# Altium integrated library Analog Devices Operational Amplifiers.IntLib: 2102 symbols (part 9 of 70)
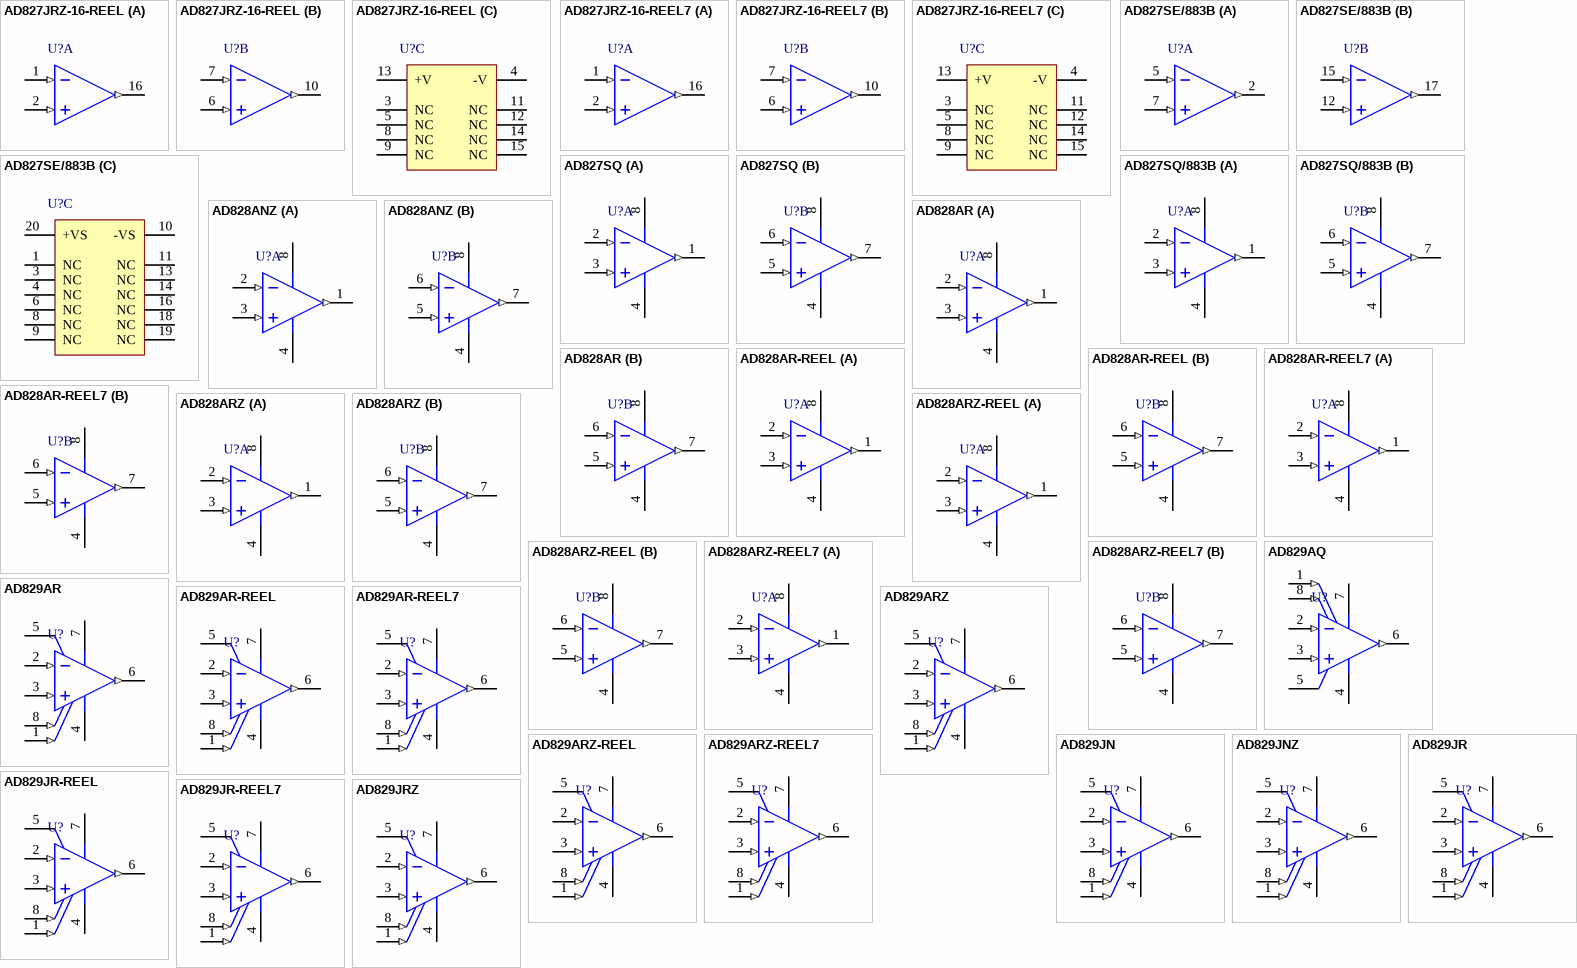
[diagram p122: symbols AD827JRZ-16-REEL to AD829JRZ]

## AD828ARZ
designator U?
Double Channel Low Power Operational Amplifier, 130 MHz BW, 450 V/us SR, Industrial, 8-pin SOIC (R-8), Tube; Generic Part Number: AD828; Manufacturer: Analog Devices; PartNumber: AD828ARZ; Amplifiers Per Package: 2; Input Bias Current: 3.3uA; Input Offset Voltage: 500uV; Iq/Amp: 7.5mA; Small Signal Bandwidth: 130MHz; V Span Max: 36V; V Span Min: 5V; DatasheetVersion: Rev. C; PackageVersion: 060506-A; PackageReference: R-8; PackageDescription: 8-Pin Standard Small Outline Package, Body 3.9 x 4.9 mm, Pitch 1.27 mm; Supplier 1: Digi-Key; Supplier Part Number 1: AD828ARZ-ND; Supplier 2: Farnell; Supplier Part Number 2: 1651292; Supplier 3: Newark; Supplier Part Number 3: 19M8893; Slew Rate: 450V/us; Mounting Technology: Surface Mount; Code_JEDEC: MS-012-AA; ComponentLink1Description: Manufacturer URL; ComponentLink1URL: http://www.analog.com/en/index.html; ComponentLink2Description: Datasheet; ComponentLink2URL: http://www.analog.com/static/imported-files/data_sheets/AD828.pdf; ComponentLink3Description: Package Specification; ComponentLink3URL: http://www.analog.com/static/imported-files/packages/PKG_PDF/SOIC_Narrow%20(R)/R_8.pdf
footprint ADI-R-8_N (SOIC, 8-Leads, Body 4.9x3.9mm, Pitch 1.27mm, IPC Medium Density)
footprint ADI-R-8_L (SOIC, 8-Leads, Body 4.9x3.9mm, Pitch 1.27mm, IPC High Density)
footprint ADI-R-8_M (SOIC, 8-Leads, Body 4.9x3.9mm, Pitch 1.27mm, IPC Low Density)
pins on every part: 4 -V (power), 8 +V (power)
part A pins: 1 OUT 1 (out), 2 -IN 1 (in), 3 +IN 1 (in)
part B pins: 5 +IN 2 (in), 6 -IN 2 (in), 7 OUT 2 (out)

## AD828ARZ-REEL
designator U?
Double Channel Low Power Operational Amplifier, 130 MHz BW, 450 V/us SR, Industrial, 8-pin SOIC (R-8), Reel; Generic Part Number: AD828; Manufacturer: Analog Devices; PartNumber: AD828ARZ-REEL; Amplifiers Per Package: 2; Input Bias Current: 3.3uA; Input Offset Voltage: 500uV; Iq/Amp: 7.5mA; Small Signal Bandwidth: 130MHz; V Span Max: 36V; V Span Min: 5V; DatasheetVersion: Rev. C; PackageVersion: 060506-A; PackageReference: R-8; PackageDescription: 8-Pin Standard Small Outline Package, Body 3.9 x 4.9 mm, Pitch 1.27 mm; Supplier 1: Digi-Key; Supplier Part Number 1: AD828ARZ-REEL-ND; Slew Rate: 450V/us; Mounting Technology: Surface Mount; Code_JEDEC: MS-012-AA; ComponentLink1Description: Manufacturer URL; ComponentLink1URL: http://www.analog.com/en/index.html; ComponentLink2Description: Datasheet; ComponentLink2URL: http://www.analog.com/static/imported-files/data_sheets/AD828.pdf; ComponentLink3Description: Package Specification; ComponentLink3URL: http://www.analog.com/static/imported-files/packages/PKG_PDF/SOIC_Narrow%20(R)/R_8.pdf
footprint ADI-R-8_N (SOIC, 8-Leads, Body 4.9x3.9mm, Pitch 1.27mm, IPC Medium Density)
footprint ADI-R-8_L (SOIC, 8-Leads, Body 4.9x3.9mm, Pitch 1.27mm, IPC High Density)
footprint ADI-R-8_M (SOIC, 8-Leads, Body 4.9x3.9mm, Pitch 1.27mm, IPC Low Density)
pins on every part: 4 -V (power), 8 +V (power)
part A pins: 1 OUT 1 (out), 2 -IN 1 (in), 3 +IN 1 (in)
part B pins: 5 +IN 2 (in), 6 -IN 2 (in), 7 OUT 2 (out)

## AD828ARZ-REEL7
designator U?
Double Channel Low Power Operational Amplifier, 130 MHz BW, 450 V/us SR, Industrial, 8-pin SOIC (R-8), Reel; Generic Part Number: AD828; Manufacturer: Analog Devices; PartNumber: AD828ARZ-REEL7; Amplifiers Per Package: 2; Input Bias Current: 3.3uA; Input Offset Voltage: 500uV; Iq/Amp: 7.5mA; Small Signal Bandwidth: 130MHz; V Span Max: 36V; V Span Min: 5V; DatasheetVersion: Rev. C; PackageVersion: 060506-A; PackageReference: R-8; PackageDescription: 8-Pin Standard Small Outline Package, Body 3.9 x 4.9 mm, Pitch 1.27 mm; Supplier 1: Digi-Key; Supplier Part Number 1: AD828ARZ-REEL7-ND; Slew Rate: 450V/us; Mounting Technology: Surface Mount; Code_JEDEC: MS-012-AA; ComponentLink1Description: Manufacturer URL; ComponentLink1URL: http://www.analog.com/en/index.html; ComponentLink2Description: Datasheet; ComponentLink2URL: http://www.analog.com/static/imported-files/data_sheets/AD828.pdf; ComponentLink3Description: Package Specification; ComponentLink3URL: http://www.analog.com/static/imported-files/packages/PKG_PDF/SOIC_Narrow%20(R)/R_8.pdf
footprint ADI-R-8_N (SOIC, 8-Leads, Body 4.9x3.9mm, Pitch 1.27mm, IPC Medium Density)
footprint ADI-R-8_L (SOIC, 8-Leads, Body 4.9x3.9mm, Pitch 1.27mm, IPC High Density)
footprint ADI-R-8_M (SOIC, 8-Leads, Body 4.9x3.9mm, Pitch 1.27mm, IPC Low Density)
pins on every part: 4 -V (power), 8 +V (power)
part A pins: 1 OUT 1 (out), 2 -IN 1 (in), 3 +IN 1 (in)
part B pins: 5 +IN 2 (in), 6 -IN 2 (in), 7 OUT 2 (out)

## AD829AQ
designator U?
Single Channel Low Noise Operational Amplifier, 120 MHz BW, 230 V/us SR, Industrial, 8-pin DIP (Q-8), Tube; Generic Part Number: AD829; Manufacturer: Analog Devices; PartNumber: AD829AQ; Amplifiers Per Package: 1; Input Bias Current: 3.3uA; Input Offset Voltage: 100uV; Iq/Amp: 6.5mA; Small Signal Bandwidth: 120MHz; V Span Max: 36V; V Span Min: 9V; DatasheetVersion: Rev. I; PackageReference: Q-8; PackageDescription: 8-Pin Ceramic Dual In-Line Package, Row spacing 7.62 mm, Pitch 2.54 mm; Supplier 1: Digi-Key; Supplier Part Number 1: AD829AQ-ND; Supplier 2: Newark; Supplier Part Number 2: 05F7694; Packing: Tube; Slew Rate: 230V/us; Mounting Technology: Through Hole; ComponentLink1Description: Manufacturer URL; ComponentLink1URL: http://www.analog.com/en/index.html; ComponentLink2Description: Datasheet; ComponentLink2URL: http://www.analog.com/static/imported-files/data_sheets/AD829.pdf; ComponentLink3Description: Package Specification; ComponentLink3URL: http://www.analog.com/static/imported-files/packages/3925655241313314758Q_8.pdf
footprint ADI-Q-8 (DIP, 8-Leads, Body 10.29x6.73mm, Pitch 2.54mm)
pins: 1 OFFSET NULL (in), 2 -IN (in), 3 +IN (in), 4 -VS (power), 5 CCOMP, 6 OUT (out), 7 +VS (power), 8 OFFSET NULL (in)

## AD829AR
designator U?
Single Channel Low Noise Operational Amplifier, 120 MHz BW, 230 V/us SR, Industrial, 8-pin SOIC (R-8), Tube; Generic Part Number: AD829; Manufacturer: Analog Devices; PartNumber: AD829AR; Amplifiers Per Package: 1; Input Bias Current: 3.3uA; Input Offset Voltage: 200uV; Iq/Amp: 6.5mA; Small Signal Bandwidth: 120MHz; V Span Max: 36V; V Span Min: 9V; DatasheetVersion: Rev. I; PackageVersion: 060506-A; PackageReference: R-8; PackageDescription: 8-Pin Standard Small Outline Package, Body 3.9 x 4.9 mm, Pitch 1.27 mm; Supplier 1: Digi-Key; Supplier Part Number 1: AD829AR-ND; Packing: Tube; Slew Rate: 230V/us; Mounting Technology: Surface Mount; Code_JEDEC: MS-012-AA; ComponentLink1Description: Manufacturer URL; ComponentLink1URL: http://www.analog.com/en/index.html; ComponentLink2Description: Datasheet; ComponentLink2URL: http://www.analog.com/static/imported-files/data_sheets/AD829.pdf; ComponentLink3Description: Package Specification; ComponentLink3URL: http://www.analog.com/static/imported-files/packages/PKG_PDF/SOIC_Narrow%20(R)/R_8.pdf
footprint ADI-R-8_N (SOIC, 8-Leads, Body 4.9x3.9mm, Pitch 1.27mm, IPC Medium Density)
footprint ADI-R-8_L (SOIC, 8-Leads, Body 4.9x3.9mm, Pitch 1.27mm, IPC High Density)
footprint ADI-R-8_M (SOIC, 8-Leads, Body 4.9x3.9mm, Pitch 1.27mm, IPC Low Density)
pins: 1 OFFSET NULL (in), 2 -IN (in), 3 +IN (in), 4 -VS (power), 5 CCOMP, 6 OUT (out), 7 +VS (power), 8 OFFSET NULL (in)

## AD829AR-REEL
designator U?
Single Channel Low Noise Operational Amplifier, 120 MHz BW, 230 V/us SR, Industrial, 8-pin SOIC (R-8), Reel; Generic Part Number: AD829; Manufacturer: Analog Devices; PartNumber: AD829AR-REEL; Amplifiers Per Package: 1; Input Bias Current: 3.3uA; Input Offset Voltage: 200uV; Iq/Amp: 6.5mA; Small Signal Bandwidth: 120MHz; V Span Max: 36V; V Span Min: 9V; DatasheetVersion: Rev. I; PackageVersion: 060506-A; PackageReference: R-8; PackageDescription: 8-Pin Standard Small Outline Package, Body 3.9 x 4.9 mm, Pitch 1.27 mm; Supplier 1: Digi-Key; Supplier Part Number 1: AD829AR-REEL-ND; Supplier 2: Newark; Supplier Part Number 2: 09B6530; Packing: Reel; Slew Rate: 230V/us; Mounting Technology: Surface Mount; Code_JEDEC: MS-012-AA; ComponentLink1Description: Manufacturer URL; ComponentLink1URL: http://www.analog.com/en/index.html; ComponentLink2Description: Datasheet; ComponentLink2URL: http://www.analog.com/static/imported-files/data_sheets/AD829.pdf; ComponentLink3Description: Package Specification; ComponentLink3URL: http://www.analog.com/static/imported-files/packages/PKG_PDF/SOIC_Narrow%20(R)/R_8.pdf
footprint ADI-R-8_N (SOIC, 8-Leads, Body 4.9x3.9mm, Pitch 1.27mm, IPC Medium Density)
footprint ADI-R-8_L (SOIC, 8-Leads, Body 4.9x3.9mm, Pitch 1.27mm, IPC High Density)
footprint ADI-R-8_M (SOIC, 8-Leads, Body 4.9x3.9mm, Pitch 1.27mm, IPC Low Density)
pins: 1 OFFSET NULL (in), 2 -IN (in), 3 +IN (in), 4 -VS (power), 5 CCOMP, 6 OUT (out), 7 +VS (power), 8 OFFSET NULL (in)

## AD829AR-REEL7
designator U?
Single Channel Low Noise Operational Amplifier, 120 MHz BW, 230 V/us SR, Industrial, 8-pin SOIC (R-8), Reel; Generic Part Number: AD829; Manufacturer: Analog Devices; PartNumber: AD829AR-REEL7; Amplifiers Per Package: 1; Input Bias Current: 3.3uA; Input Offset Voltage: 200uV; Iq/Amp: 6.5mA; Small Signal Bandwidth: 120MHz; V Span Max: 36V; V Span Min: 9V; DatasheetVersion: Rev. I; PackageVersion: 060506-A; PackageReference: R-8; PackageDescription: 8-Pin Standard Small Outline Package, Body 3.9 x 4.9 mm, Pitch 1.27 mm; Supplier 1: Digi-Key; Supplier Part Number 1: AD829AR-REEL7-ND; Supplier 2: Newark; Supplier Part Number 2: 09B6531; Packing: Reel; Slew Rate: 230V/us; Mounting Technology: Surface Mount; Code_JEDEC: MS-012-AA; ComponentLink1Description: Manufacturer URL; ComponentLink1URL: http://www.analog.com/en/index.html; ComponentLink2Description: Datasheet; ComponentLink2URL: http://www.analog.com/static/imported-files/data_sheets/AD829.pdf; ComponentLink3Description: Package Specification; ComponentLink3URL: http://www.analog.com/static/imported-files/packages/PKG_PDF/SOIC_Narrow%20(R)/R_8.pdf
footprint ADI-R-8_N (SOIC, 8-Leads, Body 4.9x3.9mm, Pitch 1.27mm, IPC Medium Density)
footprint ADI-R-8_L (SOIC, 8-Leads, Body 4.9x3.9mm, Pitch 1.27mm, IPC High Density)
footprint ADI-R-8_M (SOIC, 8-Leads, Body 4.9x3.9mm, Pitch 1.27mm, IPC Low Density)
pins: 1 OFFSET NULL (in), 2 -IN (in), 3 +IN (in), 4 -VS (power), 5 CCOMP, 6 OUT (out), 7 +VS (power), 8 OFFSET NULL (in)

## AD829ARZ
designator U?
Single Channel Low Noise Operational Amplifier, 120 MHz BW, 230 V/us SR, Industrial, 8-pin SOIC (R-8), Tube; Generic Part Number: AD829; Manufacturer: Analog Devices; PartNumber: AD829ARZ; Amplifiers Per Package: 1; Input Bias Current: 3.3uA; Input Offset Voltage: 200uV; Iq/Amp: 6.5mA; Small Signal Bandwidth: 120MHz; V Span Max: 36V; V Span Min: 9V; DatasheetVersion: Rev. I; PackageVersion: 060506-A; PackageReference: R-8; PackageDescription: 8-Pin Standard Small Outline Package, Body 3.9 x 4.9 mm, Pitch 1.27 mm; Supplier 1: Digi-Key; Supplier Part Number 1: AD829ARZ-ND; Supplier 2: Farnell; Supplier Part Number 2: 1651322; Supplier 3: Newark; Supplier Part Number 3: 82H3000; Packing: Tube; Slew Rate: 230V/us; Mounting Technology: Surface Mount; Code_JEDEC: MS-012-AA; ComponentLink1Description: Manufacturer URL; ComponentLink1URL: http://www.analog.com/en/index.html; ComponentLink2Description: Datasheet; ComponentLink2URL: http://www.analog.com/static/imported-files/data_sheets/AD829.pdf; ComponentLink3Description: Package Specification; ComponentLink3URL: http://www.analog.com/static/imported-files/packages/PKG_PDF/SOIC_Narrow%20(R)/R_8.pdf
footprint ADI-R-8_N (SOIC, 8-Leads, Body 4.9x3.9mm, Pitch 1.27mm, IPC Medium Density)
footprint ADI-R-8_L (SOIC, 8-Leads, Body 4.9x3.9mm, Pitch 1.27mm, IPC High Density)
footprint ADI-R-8_M (SOIC, 8-Leads, Body 4.9x3.9mm, Pitch 1.27mm, IPC Low Density)
pins: 1 OFFSET NULL (in), 2 -IN (in), 3 +IN (in), 4 -VS (power), 5 CCOMP, 6 OUT (out), 7 +VS (power), 8 OFFSET NULL (in)

## AD829ARZ-REEL
designator U?
Single Channel Low Noise Operational Amplifier, 120 MHz BW, 230 V/us SR, Industrial, 8-pin SOIC (R-8), Reel; Generic Part Number: AD829; Manufacturer: Analog Devices; PartNumber: AD829ARZ-REEL; Amplifiers Per Package: 1; Input Bias Current: 3.3uA; Input Offset Voltage: 200uV; Iq/Amp: 6.5mA; Small Signal Bandwidth: 120MHz; V Span Max: 36V; V Span Min: 9V; DatasheetVersion: Rev. I; PackageVersion: 060506-A; PackageReference: R-8; PackageDescription: 8-Pin Standard Small Outline Package, Body 3.9 x 4.9 mm, Pitch 1.27 mm; Supplier 1: Digi-Key; Supplier Part Number 1: AD829ARZ-REEL-ND; Supplier 2: Newark; Supplier Part Number 2: 82H3001; Packing: Reel; Slew Rate: 230V/us; Mounting Technology: Surface Mount; Code_JEDEC: MS-012-AA; ComponentLink1Description: Manufacturer URL; ComponentLink1URL: http://www.analog.com/en/index.html; ComponentLink2Description: Datasheet; ComponentLink2URL: http://www.analog.com/static/imported-files/data_sheets/AD829.pdf; ComponentLink3Description: Package Specification; ComponentLink3URL: http://www.analog.com/static/imported-files/packages/PKG_PDF/SOIC_Narrow%20(R)/R_8.pdf
footprint ADI-R-8_N (SOIC, 8-Leads, Body 4.9x3.9mm, Pitch 1.27mm, IPC Medium Density)
footprint ADI-R-8_L (SOIC, 8-Leads, Body 4.9x3.9mm, Pitch 1.27mm, IPC High Density)
footprint ADI-R-8_M (SOIC, 8-Leads, Body 4.9x3.9mm, Pitch 1.27mm, IPC Low Density)
pins: 1 OFFSET NULL (in), 2 -IN (in), 3 +IN (in), 4 -VS (power), 5 CCOMP, 6 OUT (out), 7 +VS (power), 8 OFFSET NULL (in)

## AD829ARZ-REEL7
designator U?
Single Channel Low Noise Operational Amplifier, 120 MHz BW, 230 V/us SR, Industrial, 8-pin SOIC (R-8), Reel; Generic Part Number: AD829; Manufacturer: Analog Devices; PartNumber: AD829ARZ-REEL7; Amplifiers Per Package: 1; Input Bias Current: 3.3uA; Input Offset Voltage: 200uV; Iq/Amp: 6.5mA; Small Signal Bandwidth: 120MHz; V Span Max: 36V; V Span Min: 9V; DatasheetVersion: Rev. I; PackageVersion: 060506-A; PackageReference: R-8; PackageDescription: 8-Pin Standard Small Outline Package, Body 3.9 x 4.9 mm, Pitch 1.27 mm; Supplier 1: Digi-Key; Supplier Part Number 1: AD829ARZ-REEL7TR-ND; Supplier 2: Digi-Key; Supplier Part Number 2: AD829ARZ-REEL7CT-ND; Supplier 3: Digi-Key; Supplier Part Number 3: AD829ARZ-REEL7DKR-ND; Supplier 4: Newark; Supplier Part Number 4: 88H0207; Packing: Reel; Slew Rate: 230V/us; Mounting Technology: Surface Mount; Code_JEDEC: MS-012-AA; ComponentLink1Description: Manufacturer URL; ComponentLink1URL: http://www.analog.com/en/index.html; ComponentLink2Description: Datasheet; ComponentLink2URL: http://www.analog.com/static/imported-files/data_sheets/AD829.pdf; ComponentLink3Description: Package Specification; ComponentLink3URL: http://www.analog.com/static/imported-files/packages/PKG_PDF/SOIC_Narrow%20(R)/R_8.pdf
footprint ADI-R-8_N (SOIC, 8-Leads, Body 4.9x3.9mm, Pitch 1.27mm, IPC Medium Density)
footprint ADI-R-8_L (SOIC, 8-Leads, Body 4.9x3.9mm, Pitch 1.27mm, IPC High Density)
footprint ADI-R-8_M (SOIC, 8-Leads, Body 4.9x3.9mm, Pitch 1.27mm, IPC Low Density)
pins: 1 OFFSET NULL (in), 2 -IN (in), 3 +IN (in), 4 -VS (power), 5 CCOMP, 6 OUT (out), 7 +VS (power), 8 OFFSET NULL (in)

## AD829JN
designator U?
Single Channel Low Noise Operational Amplifier, 120 MHz BW, 230 V/us SR, Commercial, 8-pin DIP (N-8), Tube; Generic Part Number: AD829; Manufacturer: Analog Devices; PartNumber: AD829JN; Amplifiers Per Package: 1; Input Bias Current: 3.3uA; Input Offset Voltage: 200uV; Iq/Amp: 6.5mA; Small Signal Bandwidth: 120MHz; V Span Max: 36V; V Span Min: 9V; DatasheetVersion: Rev. I; PackageVersion: 070606-A; PackageReference: N-8; PackageDescription: 8-Pin Plastic Dual In-Line Package, Row spacing 7.62 mm, Pitch 2.54 mm; Supplier 1: Digi-Key; Supplier Part Number 1: AD829JN-ND; Packing: Tube; Slew Rate: 230V/us; Mounting Technology: Through Hole; Code_JEDEC: MS-001; ComponentLink1Description: Manufacturer URL; ComponentLink1URL: http://www.analog.com/en/index.html; ComponentLink2Description: Datasheet; ComponentLink2URL: http://www.analog.com/static/imported-files/data_sheets/AD829.pdf; ComponentLink3Description: Package Specification; ComponentLink3URL: http:/www.analog.com/static/imported-files/packages/PKG_PDF/PDIP(N)/N_8.pdf
footprint ADI-N-8 (DIP, 8-Leads, Body 9.59x6.6mm, Pitch 2.54mm)
pins: 1 OFFSET NULL (in), 2 -IN (in), 3 +IN (in), 4 -VS (power), 5 CCOMP, 6 OUT (out), 7 +VS (power), 8 OFFSET NULL (in)

## AD829JNZ
designator U?
Single Channel Low Noise Operational Amplifier, 120 MHz BW, 230 V/us SR, Commercial, 8-pin DIP (N-8), Tube; Generic Part Number: AD829; Manufacturer: Analog Devices; PartNumber: AD829JNZ; Amplifiers Per Package: 1; Input Bias Current: 3.3uA; Input Offset Voltage: 200uV; Iq/Amp: 6.5mA; Small Signal Bandwidth: 120MHz; V Span Max: 36V; V Span Min: 9V; DatasheetVersion: Rev. I; PackageVersion: 070606-A; PackageReference: N-8; PackageDescription: 8-Pin Plastic Dual In-Line Package, Row spacing 7.62 mm, Pitch 2.54 mm; Supplier 1: Digi-Key; Supplier Part Number 1: AD829JNZ-ND; Supplier 2: Farnell; Supplier Part Number 2: 1438584; Supplier 3: Newark; Supplier Part Number 3: 59K6536; Packing: Tube; Slew Rate: 230V/us; Mounting Technology: Through Hole; Code_JEDEC: MS-001; ComponentLink1Description: Manufacturer URL; ComponentLink1URL: http://www.analog.com/en/index.html; ComponentLink2Description: Datasheet; ComponentLink2URL: http://www.analog.com/static/imported-files/data_sheets/AD829.pdf; ComponentLink3Description: Package Specification; ComponentLink3URL: http:/www.analog.com/static/imported-files/packages/PKG_PDF/PDIP(N)/N_8.pdf
footprint ADI-N-8 (DIP, 8-Leads, Body 9.59x6.6mm, Pitch 2.54mm)
pins: 1 OFFSET NULL (in), 2 -IN (in), 3 +IN (in), 4 -VS (power), 5 CCOMP, 6 OUT (out), 7 +VS (power), 8 OFFSET NULL (in)

## AD829JR
designator U?
Single Channel Low Noise Operational Amplifier, 120 MHz BW, 230 V/us SR, Commercial, 8-pin SOIC (R-8), Tube; Generic Part Number: AD829; Manufacturer: Analog Devices; PartNumber: AD829JR; Amplifiers Per Package: 1; Input Bias Current: 3.3uA; Input Offset Voltage: 200uV; Iq/Amp: 6.5mA; Small Signal Bandwidth: 120MHz; V Span Max: 36V; V Span Min: 9V; DatasheetVersion: Rev. I; PackageVersion: 060506-A; PackageReference: R-8; PackageDescription: 8-Pin Standard Small Outline Package, Body 3.9 x 4.9 mm, Pitch 1.27 mm; Supplier 1: Digi-Key; Supplier Part Number 1: AD829JR-ND; Packing: Tube; Slew Rate: 230V/us; Mounting Technology: Surface Mount; Code_JEDEC: MS-012-AA; ComponentLink1Description: Manufacturer URL; ComponentLink1URL: http://www.analog.com/en/index.html; ComponentLink2Description: Datasheet; ComponentLink2URL: http://www.analog.com/static/imported-files/data_sheets/AD829.pdf; ComponentLink3Description: Package Specification; ComponentLink3URL: http://www.analog.com/static/imported-files/packages/PKG_PDF/SOIC_Narrow%20(R)/R_8.pdf
footprint ADI-R-8_N (SOIC, 8-Leads, Body 4.9x3.9mm, Pitch 1.27mm, IPC Medium Density)
footprint ADI-R-8_L (SOIC, 8-Leads, Body 4.9x3.9mm, Pitch 1.27mm, IPC High Density)
footprint ADI-R-8_M (SOIC, 8-Leads, Body 4.9x3.9mm, Pitch 1.27mm, IPC Low Density)
pins: 1 OFFSET NULL (in), 2 -IN (in), 3 +IN (in), 4 -VS (power), 5 CCOMP, 6 OUT (out), 7 +VS (power), 8 OFFSET NULL (in)

## AD829JR-REEL
designator U?
Single Channel Low Noise Operational Amplifier, 120 MHz BW, 230 V/us SR, Commercial, 8-pin SOIC (R-8), Reel; Generic Part Number: AD829; Manufacturer: Analog Devices; PartNumber: AD829JR-REEL; Amplifiers Per Package: 1; Input Bias Current: 3.3uA; Input Offset Voltage: 200uV; Iq/Amp: 6.5mA; Small Signal Bandwidth: 120MHz; V Span Max: 36V; V Span Min: 9V; DatasheetVersion: Rev. I; PackageVersion: 060506-A; PackageReference: R-8; PackageDescription: 8-Pin Standard Small Outline Package, Body 3.9 x 4.9 mm, Pitch 1.27 mm; Supplier 1: Digi-Key; Supplier Part Number 1: AD829JR-REEL-ND; Supplier 2: Newark; Supplier Part Number 2: 09B6532; Packing: Reel; Slew Rate: 230V/us; Mounting Technology: Surface Mount; Code_JEDEC: MS-012-AA; ComponentLink1Description: Manufacturer URL; ComponentLink1URL: http://www.analog.com/en/index.html; ComponentLink2Description: Datasheet; ComponentLink2URL: http://www.analog.com/static/imported-files/data_sheets/AD829.pdf; ComponentLink3Description: Package Specification; ComponentLink3URL: http://www.analog.com/static/imported-files/packages/PKG_PDF/SOIC_Narrow%20(R)/R_8.pdf
footprint ADI-R-8_N (SOIC, 8-Leads, Body 4.9x3.9mm, Pitch 1.27mm, IPC Medium Density)
footprint ADI-R-8_L (SOIC, 8-Leads, Body 4.9x3.9mm, Pitch 1.27mm, IPC High Density)
footprint ADI-R-8_M (SOIC, 8-Leads, Body 4.9x3.9mm, Pitch 1.27mm, IPC Low Density)
pins: 1 OFFSET NULL (in), 2 -IN (in), 3 +IN (in), 4 -VS (power), 5 CCOMP, 6 OUT (out), 7 +VS (power), 8 OFFSET NULL (in)

## AD829JR-REEL7
designator U?
Single Channel Low Noise Operational Amplifier, 120 MHz BW, 230 V/us SR, Commercial, 8-pin SOIC (R-8), Reel; Generic Part Number: AD829; Manufacturer: Analog Devices; PartNumber: AD829JR-REEL7; Amplifiers Per Package: 1; Input Bias Current: 3.3uA; Input Offset Voltage: 200uV; Iq/Amp: 6.5mA; Small Signal Bandwidth: 120MHz; V Span Max: 36V; V Span Min: 9V; DatasheetVersion: Rev. I; PackageVersion: 060506-A; PackageReference: R-8; PackageDescription: 8-Pin Standard Small Outline Package, Body 3.9 x 4.9 mm, Pitch 1.27 mm; Supplier 1: Digi-Key; Supplier Part Number 1: AD829JR-REEL7TR-ND; Supplier 2: Newark; Supplier Part Number 2: 09B6533; Packing: Reel; Slew Rate: 230V/us; Mounting Technology: Surface Mount; Code_JEDEC: MS-012-AA; ComponentLink1Description: Manufacturer URL; ComponentLink1URL: http://www.analog.com/en/index.html; ComponentLink2Description: Datasheet; ComponentLink2URL: http://www.analog.com/static/imported-files/data_sheets/AD829.pdf; ComponentLink3Description: Package Specification; ComponentLink3URL: http://www.analog.com/static/imported-files/packages/PKG_PDF/SOIC_Narrow%20(R)/R_8.pdf
footprint ADI-R-8_N (SOIC, 8-Leads, Body 4.9x3.9mm, Pitch 1.27mm, IPC Medium Density)
footprint ADI-R-8_L (SOIC, 8-Leads, Body 4.9x3.9mm, Pitch 1.27mm, IPC High Density)
footprint ADI-R-8_M (SOIC, 8-Leads, Body 4.9x3.9mm, Pitch 1.27mm, IPC Low Density)
pins: 1 OFFSET NULL (in), 2 -IN (in), 3 +IN (in), 4 -VS (power), 5 CCOMP, 6 OUT (out), 7 +VS (power), 8 OFFSET NULL (in)

## AD829JRZ
designator U?
Single Channel Low Noise Operational Amplifier, 120 MHz BW, 230 V/us SR, Commercial, 8-pin SOIC (R-8), Tube; Generic Part Number: AD829; Manufacturer: Analog Devices; PartNumber: AD829JRZ; Amplifiers Per Package: 1; Input Bias Current: 3.3uA; Input Offset Voltage: 200uV; Iq/Amp: 6.5mA; Small Signal Bandwidth: 120MHz; V Span Max: 36V; V Span Min: 9V; DatasheetVersion: Rev. I; PackageVersion: 060506-A; PackageReference: R-8; PackageDescription: 8-Pin Standard Small Outline Package, Body 3.9 x 4.9 mm, Pitch 1.27 mm; Supplier 1: Digi-Key; Supplier Part Number 1: AD829JRZ-ND; Supplier 2: Farnell; Supplier Part Number 2: 1651321; Supplier 3: Newark; Supplier Part Number 3: 19M8894; Packing: Tube; Slew Rate: 230V/us; Mounting Technology: Surface Mount; Code_JEDEC: MS-012-AA; ComponentLink1Description: Manufacturer URL; ComponentLink1URL: http://www.analog.com/en/index.html; ComponentLink2Description: Datasheet; ComponentLink2URL: http://www.analog.com/static/imported-files/data_sheets/AD829.pdf; ComponentLink3Description: Package Specification; ComponentLink3URL: http://www.analog.com/static/imported-files/packages/PKG_PDF/SOIC_Narrow%20(R)/R_8.pdf
footprint ADI-R-8_N (SOIC, 8-Leads, Body 4.9x3.9mm, Pitch 1.27mm, IPC Medium Density)
footprint ADI-R-8_L (SOIC, 8-Leads, Body 4.9x3.9mm, Pitch 1.27mm, IPC High Density)
footprint ADI-R-8_M (SOIC, 8-Leads, Body 4.9x3.9mm, Pitch 1.27mm, IPC Low Density)
pins: 1 OFFSET NULL (in), 2 -IN (in), 3 +IN (in), 4 -VS (power), 5 CCOMP, 6 OUT (out), 7 +VS (power), 8 OFFSET NULL (in)

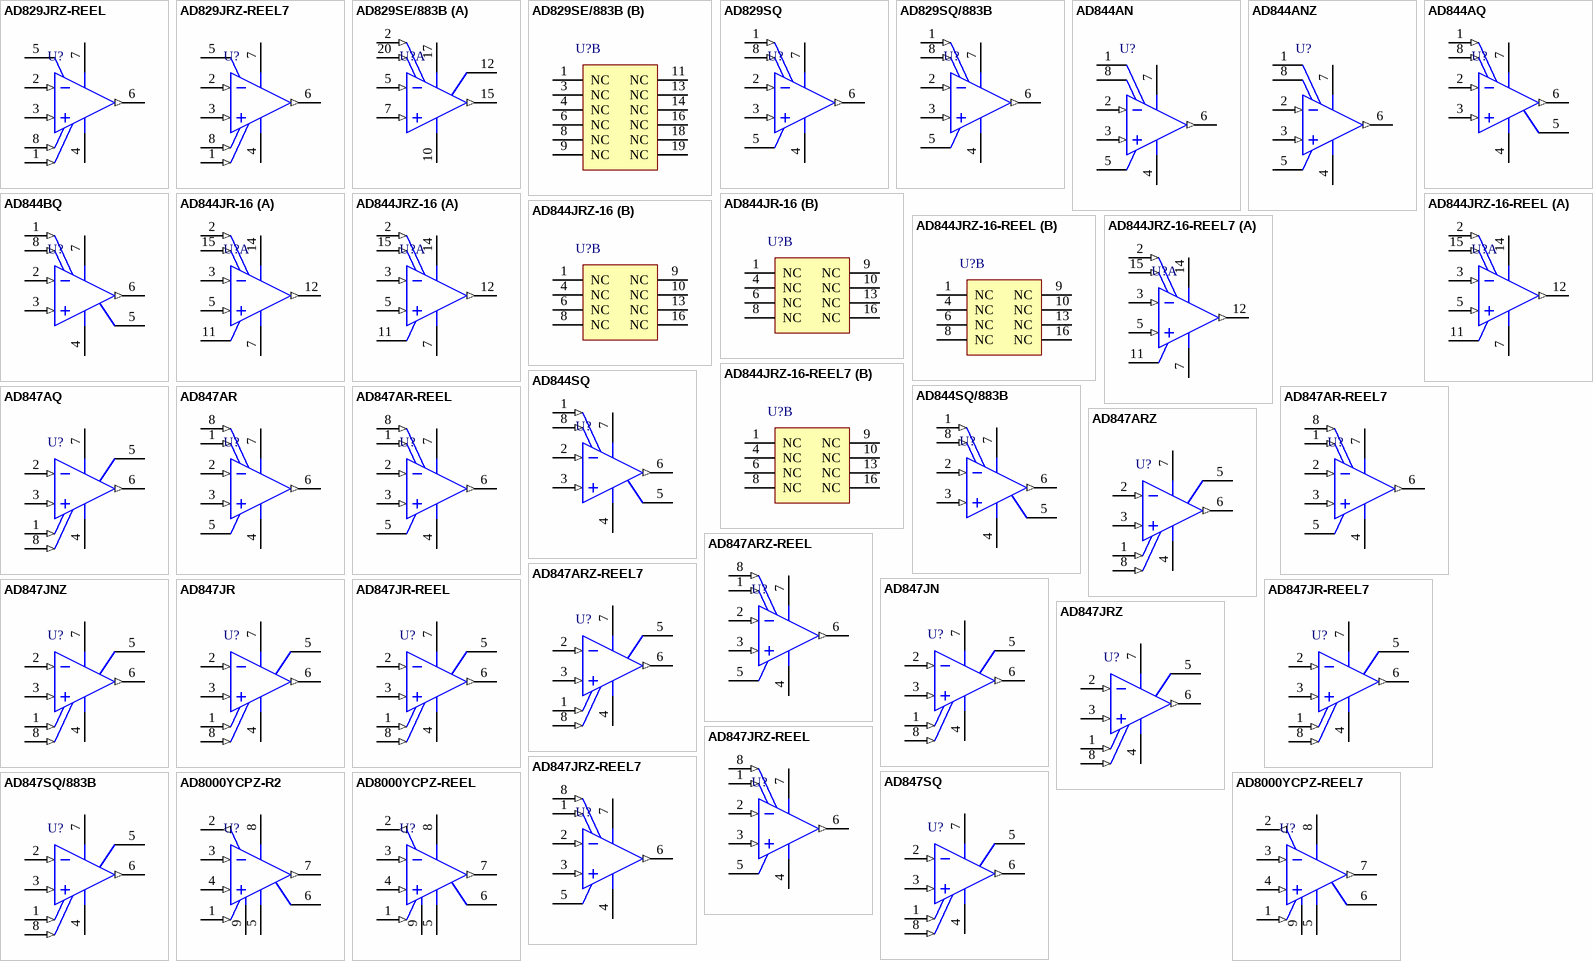
[diagram p14: symbols AD829JRZ-REEL to AD8000YCPZ-REEL7]

## AD829JRZ-REEL
designator U?
Single Channel Low Noise Operational Amplifier, 120 MHz BW, 230 V/us SR, Commercial, 8-pin SOIC (R-8), Reel; Generic Part Number: AD829; Manufacturer: Analog Devices; PartNumber: AD829JRZ-REEL; Amplifiers Per Package: 1; Input Bias Current: 3.3uA; Input Offset Voltage: 200uV; Iq/Amp: 6.5mA; Small Signal Bandwidth: 120MHz; V Span Max: 36V; V Span Min: 9V; DatasheetVersion: Rev. I; PackageVersion: 060506-A; PackageReference: R-8; PackageDescription: 8-Pin Standard Small Outline Package, Body 3.9 x 4.9 mm, Pitch 1.27 mm; Supplier 1: Digi-Key; Supplier Part Number 1: AD829JRZ-REEL-ND; Supplier 2: Newark; Supplier Part Number 2: 59K6538; Packing: Reel; Slew Rate: 230V/us; Mounting Technology: Surface Mount; Code_JEDEC: MS-012-AA; ComponentLink1Description: Manufacturer URL; ComponentLink1URL: http://www.analog.com/en/index.html; ComponentLink2Description: Datasheet; ComponentLink2URL: http://www.analog.com/static/imported-files/data_sheets/AD829.pdf; ComponentLink3Description: Package Specification; ComponentLink3URL: http://www.analog.com/static/imported-files/packages/PKG_PDF/SOIC_Narrow%20(R)/R_8.pdf
footprint ADI-R-8_N (SOIC, 8-Leads, Body 4.9x3.9mm, Pitch 1.27mm, IPC Medium Density)
footprint ADI-R-8_L (SOIC, 8-Leads, Body 4.9x3.9mm, Pitch 1.27mm, IPC High Density)
footprint ADI-R-8_M (SOIC, 8-Leads, Body 4.9x3.9mm, Pitch 1.27mm, IPC Low Density)
pins: 1 OFFSET NULL (in), 2 -IN (in), 3 +IN (in), 4 -VS (power), 5 CCOMP, 6 OUT (out), 7 +VS (power), 8 OFFSET NULL (in)

## AD829JRZ-REEL7
designator U?
Single Channel Low Noise Operational Amplifier, 120 MHz BW, 230 V/us SR, Commercial, 8-pin SOIC (R-8), Reel; Generic Part Number: AD829; Manufacturer: Analog Devices; PartNumber: AD829JRZ-REEL7; Amplifiers Per Package: 1; Input Bias Current: 3.3uA; Input Offset Voltage: 200uV; Iq/Amp: 6.5mA; Small Signal Bandwidth: 120MHz; V Span Max: 36V; V Span Min: 9V; DatasheetVersion: Rev. I; PackageVersion: 060506-A; PackageReference: R-8; PackageDescription: 8-Pin Standard Small Outline Package, Body 3.9 x 4.9 mm, Pitch 1.27 mm; Supplier 1: Digi-Key; Supplier Part Number 1: AD829JRZ-REEL7TR-ND; Supplier 2: Digi-Key; Supplier Part Number 2: AD829JRZ-REEL7CT-ND; Supplier 3: Digi-Key; Supplier Part Number 3: AD829JRZ-REEL7DKR-ND; Supplier 4: Newark; Supplier Part Number 4: 59K6539; Packing: Reel; Slew Rate: 230V/us; Mounting Technology: Surface Mount; Code_JEDEC: MS-012-AA; ComponentLink1Description: Manufacturer URL; ComponentLink1URL: http://www.analog.com/en/index.html; ComponentLink2Description: Datasheet; ComponentLink2URL: http://www.analog.com/static/imported-files/data_sheets/AD829.pdf; ComponentLink3Description: Package Specification; ComponentLink3URL: http://www.analog.com/static/imported-files/packages/PKG_PDF/SOIC_Narrow%20(R)/R_8.pdf
footprint ADI-R-8_N (SOIC, 8-Leads, Body 4.9x3.9mm, Pitch 1.27mm, IPC Medium Density)
footprint ADI-R-8_L (SOIC, 8-Leads, Body 4.9x3.9mm, Pitch 1.27mm, IPC High Density)
footprint ADI-R-8_M (SOIC, 8-Leads, Body 4.9x3.9mm, Pitch 1.27mm, IPC Low Density)
pins: 1 OFFSET NULL (in), 2 -IN (in), 3 +IN (in), 4 -VS (power), 5 CCOMP, 6 OUT (out), 7 +VS (power), 8 OFFSET NULL (in)

## AD829SE/883B
designator U?
Single Channel Low Noise Operational Amplifier, 120 MHz BW, 230 V/us SR, Military, 20-pin LCC (E-20-1), Tube; Generic Part Number: AD829; Manufacturer: Analog Devices; PartNumber: AD829SE/883B; Amplifiers Per Package: 1; Input Bias Current: 3.3uA; Input Offset Voltage: 100uV; Iq/Amp: 6.5mA; Small Signal Bandwidth: 120MHz; V Span Max: 36V; V Span Min: 9V; DatasheetVersion: Rev. I; PackageVersion: 022106-A; PackageReference: E-20-1; PackageDescription: 20-Terminal Ceramic Leadless Chip Carrier, Body 8.89 x 8.89 mm, Pitch 1.27 mm; Supplier 1: Digi-Key; Supplier Part Number 1: AD829SE/883B-ND; Packing: Tube; Slew Rate: 230V/us; Mounting Technology: Surface Mount; ComponentLink1Description: Manufacturer URL; ComponentLink1URL: http://www.analog.com/en/index.html; ComponentLink2Description: Datasheet; ComponentLink2URL: http://www.analog.com/static/imported-files/data_sheets/AD829.pdf; ComponentLink3Description: Package Specification; ComponentLink3URL: http://www.analog.com/static/imported-files/packages/PKG_PDF/LCC(E)/E_20_1.pdf
footprint ADI-E-20-1_N (LCC, 20-Leads, Body 8.9x8.9mm, Pitch 1.27mm, IPC Medium Density)
footprint ADI-E-20-1_L (LCC, 20-Leads, Body 8.9x8.9mm, Pitch 1.27mm, IPC High Density)
footprint ADI-E-20-1_M (LCC, 20-Leads, Body 8.9x8.9mm, Pitch 1.27mm, IPC Low Density)
part A pins: 2 OFFSET NULL (in), 5 -IN (in), 7 +IN (in), 10 -V (power), 12 CCOMP, 15 OUT (out), 17 +V (power), 20 OFFSET NULL (in)
part B pins: 1 NC, 3 NC, 4 NC, 6 NC, 8 NC, 9 NC, 11 NC, 13 NC, 14 NC, 16 NC, 18 NC, 19 NC

## AD829SQ
designator U?
Single Channel Low Noise Operational Amplifier, 120 MHz BW, 230 V/us SR, Military, 8-pin DIP (Q-8), Tube; Generic Part Number: AD829; Manufacturer: Analog Devices; PartNumber: AD829SQ; Amplifiers Per Package: 1; Input Bias Current: 3.3uA; Input Offset Voltage: 100uV; Iq/Amp: 6.5mA; Small Signal Bandwidth: 120MHz; V Span Max: 36V; V Span Min: 9V; DatasheetVersion: Rev. I; PackageReference: Q-8; PackageDescription: 8-Pin Ceramic Dual In-Line Package, Row spacing 7.62 mm, Pitch 2.54 mm; Supplier 1: Digi-Key; Supplier Part Number 1: AD829SQ-ND; Supplier 2: Newark; Supplier Part Number 2: 02H1879; Packing: Tube; Slew Rate: 230V/us; Mounting Technology: Through Hole; ComponentLink1Description: Manufacturer URL; ComponentLink1URL: http://www.analog.com/en/index.html; ComponentLink2Description: Datasheet; ComponentLink2URL: http://www.analog.com/static/imported-files/data_sheets/AD829.pdf; ComponentLink3Description: Package Specification; ComponentLink3URL: http://www.analog.com/static/imported-files/packages/3925655241313314758Q_8.pdf
footprint ADI-Q-8 (DIP, 8-Leads, Body 10.29x6.73mm, Pitch 2.54mm)
pins: 1 OFFSET NULL (in), 2 -IN (in), 3 +IN (in), 4 -VS (power), 5 CCOMP, 6 OUT (out), 7 +VS (power), 8 OFFSET NULL (in)

## AD829SQ/883B
designator U?
Single Channel Low Noise Operational Amplifier, 120 MHz BW, 230 V/us SR, Military, 8-pin DIP (Q-8), Tube; Generic Part Number: AD829; Manufacturer: Analog Devices; PartNumber: AD829SQ/883B; Amplifiers Per Package: 1; Input Bias Current: 3.3uA; Input Offset Voltage: 100uV; Iq/Amp: 6.5mA; Small Signal Bandwidth: 120MHz; V Span Max: 36V; V Span Min: 9V; DatasheetVersion: Rev. I; PackageReference: Q-8; PackageDescription: 8-Pin Ceramic Dual In-Line Package, Row spacing 7.62 mm, Pitch 2.54 mm; Supplier 1: Digi-Key; Supplier Part Number 1: AD829SQ/883B-ND; Packing: Tube; Slew Rate: 230V/us; Mounting Technology: Through Hole; ComponentLink1Description: Manufacturer URL; ComponentLink1URL: http://www.analog.com/en/index.html; ComponentLink2Description: Datasheet; ComponentLink2URL: http://www.analog.com/static/imported-files/data_sheets/AD829.pdf; ComponentLink3Description: Package Specification; ComponentLink3URL: http://www.analog.com/static/imported-files/packages/3925655241313314758Q_8.pdf
footprint ADI-Q-8 (DIP, 8-Leads, Body 10.29x6.73mm, Pitch 2.54mm)
pins: 1 OFFSET NULL (in), 2 -IN (in), 3 +IN (in), 4 -VS (power), 5 CCOMP, 6 OUT (out), 7 +VS (power), 8 OFFSET NULL (in)

## AD844AN
designator U?
Single Channel Wide Bandwidth Operational Amplifier, 60 MHz BW, 2 KV/us SR, Industrial, 8-pin DIP (N-8), Tube; Generic Part Number: AD844; Manufacturer: Analog Devices; PartNumber: AD844AN; Amplifiers Per Package: 1; Input Bias Current: 150nA; Input Offset Voltage: 50uV; Iq/Amp: 6.5mA; Slew Rate: 2KV/us; Small Signal Bandwidth: 60MHz; V Span Max: 36V; V Span Min: 9V; DatasheetVersion: Rev. F; PackageVersion: 070606-A; PackageReference: N-8; PackageDescription: 8-Pin Plastic Dual In-Line Package, Row spacing 7.62 mm, Pitch 2.54 mm; Supplier 1: Digi-Key; Supplier Part Number 1: AD844AN-ND; Packing: Tube; Mounting Technology: Through Hole; Code_JEDEC: MS-001; ComponentLink1Description: Manufacturer URL; ComponentLink1URL: http://www.analog.com/en/index.html; ComponentLink2Description: Datasheet; ComponentLink2URL: http://www.analog.com/static/imported-files/data_sheets/AD844.pdf; ComponentLink3Description: Package Specification; ComponentLink3URL: http:/www.analog.com/static/imported-files/packages/PKG_PDF/PDIP(N)/N_8.pdf
footprint ADI-N-8 (DIP, 8-Leads, Body 9.59x6.6mm, Pitch 2.54mm)
pins: 1 NULL, 2 -IN (in), 3 +IN (in), 4 -VS (power), 5 TZ, 6 OUTPUT (out), 7 +VS (power), 8 NULL

## AD844ANZ
designator U?
Single Channel Wide Bandwidth Operational Amplifier, 60 MHz BW, 2 KV/us SR, Industrial, 8-pin DIP (N-8), Tube; Generic Part Number: AD844; Manufacturer: Analog Devices; PartNumber: AD844ANZ; Amplifiers Per Package: 1; Input Bias Current: 150nA; Input Offset Voltage: 50uV; Iq/Amp: 6.5mA; Slew Rate: 2KV/us; Small Signal Bandwidth: 60MHz; V Span Max: 36V; V Span Min: 9V; DatasheetVersion: Rev. F; PackageVersion: 070606-A; PackageReference: N-8; PackageDescription: 8-Pin Plastic Dual In-Line Package, Row spacing 7.62 mm, Pitch 2.54 mm; Supplier 1: Digi-Key; Supplier Part Number 1: AD844ANZ-ND; Supplier 2: Farnell; Supplier Part Number 2: 9604693; Supplier 3: Newark; Supplier Part Number 3: 59K6750; Packing: Tube; Mounting Technology: Through Hole; Code_JEDEC: MS-001; ComponentLink1Description: Manufacturer URL; ComponentLink1URL: http://www.analog.com/en/index.html; ComponentLink2Description: Datasheet; ComponentLink2URL: http://www.analog.com/static/imported-files/data_sheets/AD844.pdf; ComponentLink3Description: Package Specification; ComponentLink3URL: http:/www.analog.com/static/imported-files/packages/PKG_PDF/PDIP(N)/N_8.pdf
footprint ADI-N-8 (DIP, 8-Leads, Body 9.59x6.6mm, Pitch 2.54mm)
pins: 1 NULL, 2 -IN (in), 3 +IN (in), 4 -VS (power), 5 TZ, 6 OUTPUT (out), 7 +VS (power), 8 NULL

## AD844AQ
designator U?
Single Channel Wide Bandwidth Operational Amplifier, 60 MHz BW, 2 KV/us SR, Industrial, 8-pin DIP (Q-8), Tube; Generic Part Number: AD844; Manufacturer: Analog Devices; PartNumber: AD844AQ; Amplifiers Per Package: 1; Input Bias Current: 150nA; Input Offset Voltage: 50uV; Iq/Amp: 6.5mA; Slew Rate: 2KV/us; Small Signal Bandwidth: 60MHz; V Span Max: 36V; V Span Min: 9V; DatasheetVersion: Rev. F; PackageReference: Q-8; PackageDescription: 8-Pin Ceramic Dual In-Line Package, Row spacing 7.62 mm, Pitch 2.54 mm; Supplier 1: Digi-Key; Supplier Part Number 1: AD844AQ-ND; Supplier 2: Newark; Supplier Part Number 2: 09B6611; Packing: Tube; Mounting Technology: Through Hole; ComponentLink1Description: Manufacturer URL; ComponentLink1URL: http://www.analog.com/en/index.html; ComponentLink2Description: Datasheet; ComponentLink2URL: http://www.analog.com/static/imported-files/data_sheets/AD844.pdf; ComponentLink3Description: Package Specification; ComponentLink3URL: http://www.analog.com/static/imported-files/packages/3925655241313314758Q_8.pdf
footprint ADI-Q-8 (DIP, 8-Leads, Body 10.29x6.73mm, Pitch 2.54mm)
pins: 1 NULL (in), 2 -IN (in), 3 +IN (in), 4 -VS (power), 5 TZ, 6 OUT (out), 7 +VS (power), 8 NULL (in)

## AD844BQ
designator U?
Single Channel Wide Bandwidth Operational Amplifier, 60 MHz BW, 2 KV/us SR, Industrial, 8-pin DIP (Q-8), Tube; Generic Part Number: AD844; Manufacturer: Analog Devices; PartNumber: AD844BQ; Amplifiers Per Package: 1; Input Bias Current: 100nA; Input Offset Voltage: 50uV; Iq/Amp: 6.5mA; Slew Rate: 2KV/us; Small Signal Bandwidth: 60MHz; V Span Max: 36V; V Span Min: 9V; DatasheetVersion: Rev. F; PackageReference: Q-8; PackageDescription: 8-Pin Ceramic Dual In-Line Package, Row spacing 7.62 mm, Pitch 2.54 mm; Supplier 1: Digi-Key; Supplier Part Number 1: AD844BQ-ND; Supplier 2: Newark; Supplier Part Number 2: 16F6548; Packing: Tube; Mounting Technology: Through Hole; ComponentLink1Description: Manufacturer URL; ComponentLink1URL: http://www.analog.com/en/index.html; ComponentLink2Description: Datasheet; ComponentLink2URL: http://www.analog.com/static/imported-files/data_sheets/AD844.pdf; ComponentLink3Description: Package Specification; ComponentLink3URL: http://www.analog.com/static/imported-files/packages/3925655241313314758Q_8.pdf
footprint ADI-Q-8 (DIP, 8-Leads, Body 10.29x6.73mm, Pitch 2.54mm)
pins: 1 NULL (in), 2 -IN (in), 3 +IN (in), 4 -VS (power), 5 TZ, 6 OUT (out), 7 +VS (power), 8 NULL (in)

## AD844JR-16
designator U?
Single Channel Wide Bandwidth Operational Amplifier, 60 MHz BW, 2 KV/us SR, Commercial, 16-pin SOIC (RW-16), Tube; Generic Part Number: AD844; Manufacturer: Analog Devices; PartNumber: AD844JR-16; Amplifiers Per Package: 1; Input Bias Current: 150nA; Input Offset Voltage: 50uV; Iq/Amp: 6.5mA; Slew Rate: 2KV/us; Small Signal Bandwidth: 60MHz; V Span Max: 36V; V Span Min: 9V; DatasheetVersion: Rev. F; PackageVersion: 032707-B; PackageReference: RW-16; PackageDescription: 16-Pin Standard Small Outline Package, Body 10.3 x 7.5 mm, Pitch 1.27 mm; Supplier 1: Digi-Key; Supplier Part Number 1: AD844JR-16-ND; Packing: Tube; Mounting Technology: Surface Mount; Code_JEDEC: MS-013-AA; ComponentLink1Description: Manufacturer URL; ComponentLink1URL: http://www.analog.com/en/index.html; ComponentLink2Description: Datasheet; ComponentLink2URL: http://www.analog.com/static/imported-files/data_sheets/AD844.pdf; ComponentLink3Description: Package Specification; ComponentLink3URL: http://www.analog.com/static/imported-files/packages/PKG_PDF/SOIC_WIDE%20%28RW%29/RW_16.pdf
footprint ADI-RW-16_N (SOIC, 16-Leads, Body 10.3x7.5mm, Pitch 1.27mm,IPC Medium Density)
footprint ADI-RW-16_L (SOIC, 16-Leads, Body 10.3x7.5mm, Pitch 1.27mm, IPC High Density)
footprint ADI-RW-16_M (SOIC, 16-Leads, Body 10.3x7.5mm, Pitch 1.27mm, IPC Low Density)
part A pins: 2 OFFSET NULL (in), 3 -IN (in), 5 +IN (in), 7 -V (power), 11 TZ, 12 OUT (out), 14 +V (power), 15 OFFSET NULL (in)
part B pins: 1 NC, 4 NC, 6 NC, 8 NC, 9 NC, 10 NC, 13 NC, 16 NC

## AD844JRZ-16
designator U?
Single Channel Wide Bandwidth Operational Amplifier, 60 MHz BW, 2 KV/us SR, Commercial, 16-pin SOIC (RW-16), Tube; Generic Part Number: AD844; Manufacturer: Analog Devices; PartNumber: AD844JRZ-16; Amplifiers Per Package: 1; Input Bias Current: 150nA; Input Offset Voltage: 50uV; Iq/Amp: 6.5mA; Slew Rate: 2KV/us; Small Signal Bandwidth: 60MHz; V Span Max: 36V; V Span Min: 9V; DatasheetVersion: Rev. F; PackageVersion: 032707-B; PackageReference: RW-16; PackageDescription: 16-Pin Standard Small Outline Package, Body 10.3 x 7.5 mm, Pitch 1.27 mm; Supplier 1: Digi-Key; Supplier Part Number 1: AD844JRZ-16-ND; Supplier 2: Farnell; Supplier Part Number 2: 1438587; Supplier 3: Newark; Supplier Part Number 3: 15P0989; Packing: Tube; Mounting Technology: Surface Mount; Code_JEDEC: MS-013-AA; ComponentLink1Description: Manufacturer URL; ComponentLink1URL: http://www.analog.com/en/index.html; ComponentLink2Description: Datasheet; ComponentLink2URL: http://www.analog.com/static/imported-files/data_sheets/AD844.pdf; ComponentLink3Description: Package Specification; ComponentLink3URL: http://www.analog.com/static/imported-files/packages/PKG_PDF/SOIC_WIDE%20%28RW%29/RW_16.pdf
footprint ADI-RW-16_N (SOIC, 16-Leads, Body 10.3x7.5mm, Pitch 1.27mm,IPC Medium Density)
footprint ADI-RW-16_L (SOIC, 16-Leads, Body 10.3x7.5mm, Pitch 1.27mm, IPC High Density)
footprint ADI-RW-16_M (SOIC, 16-Leads, Body 10.3x7.5mm, Pitch 1.27mm, IPC Low Density)
part A pins: 2 OFFSET NULL (in), 3 -IN (in), 5 +IN (in), 7 -V (power), 11 TZ, 12 OUT (out), 14 +V (power), 15 OFFSET NULL (in)
part B pins: 1 NC, 4 NC, 6 NC, 8 NC, 9 NC, 10 NC, 13 NC, 16 NC

## AD844JRZ-16-REEL
designator U?
Single Channel Wide Bandwidth Operational Amplifier, 60 MHz BW, 2 KV/us SR, Commercial, 16-pin SOIC (RW-16), Reel; Generic Part Number: AD844; Manufacturer: Analog Devices; PartNumber: AD844JRZ-16-REEL; Amplifiers Per Package: 1; Input Bias Current: 150nA; Input Offset Voltage: 50uV; Iq/Amp: 6.5mA; Slew Rate: 2KV/us; Small Signal Bandwidth: 60MHz; V Span Max: 36V; V Span Min: 9V; DatasheetVersion: Rev. F; PackageVersion: 032707-B; PackageReference: RW-16; PackageDescription: 16-Pin Standard Small Outline Package, Body 10.3 x 7.5 mm, Pitch 1.27 mm; Supplier 1: Digi-Key; Supplier Part Number 1: AD844JRZ-16-REEL-ND; Packing: Reel; Mounting Technology: Surface Mount; Code_JEDEC: MS-013-AA; ComponentLink1Description: Manufacturer URL; ComponentLink1URL: http://www.analog.com/en/index.html; ComponentLink2Description: Datasheet; ComponentLink2URL: http://www.analog.com/static/imported-files/data_sheets/AD844.pdf; ComponentLink3Description: Package Specification; ComponentLink3URL: http://www.analog.com/static/imported-files/packages/PKG_PDF/SOIC_WIDE%20%28RW%29/RW_16.pdf
footprint ADI-RW-16_N (SOIC, 16-Leads, Body 10.3x7.5mm, Pitch 1.27mm,IPC Medium Density)
footprint ADI-RW-16_L (SOIC, 16-Leads, Body 10.3x7.5mm, Pitch 1.27mm, IPC High Density)
footprint ADI-RW-16_M (SOIC, 16-Leads, Body 10.3x7.5mm, Pitch 1.27mm, IPC Low Density)
part A pins: 2 OFFSET NULL (in), 3 -IN (in), 5 +IN (in), 7 -V (power), 11 TZ, 12 OUT (out), 14 +V (power), 15 OFFSET NULL (in)
part B pins: 1 NC, 4 NC, 6 NC, 8 NC, 9 NC, 10 NC, 13 NC, 16 NC

## AD844JRZ-16-REEL7
designator U?
Single Channel Wide Bandwidth Operational Amplifier, 60 MHz BW, 2 KV/us SR, Commercial, 16-pin SOIC (RW-16), Reel; Generic Part Number: AD844; Manufacturer: Analog Devices; PartNumber: AD844JRZ-16-REEL7; Amplifiers Per Package: 1; Input Bias Current: 150nA; Input Offset Voltage: 50uV; Iq/Amp: 6.5mA; Slew Rate: 2KV/us; Small Signal Bandwidth: 60MHz; V Span Max: 36V; V Span Min: 9V; DatasheetVersion: Rev. F; PackageVersion: 032707-B; PackageReference: RW-16; PackageDescription: 16-Pin Standard Small Outline Package, Body 10.3 x 7.5 mm, Pitch 1.27 mm; Supplier 1: Digi-Key; Supplier Part Number 1: AD844JRZ-16-REEL7-ND; Packing: Reel; Mounting Technology: Surface Mount; Code_JEDEC: MS-013-AA; ComponentLink1Description: Manufacturer URL; ComponentLink1URL: http://www.analog.com/en/index.html; ComponentLink2Description: Datasheet; ComponentLink2URL: http://www.analog.com/static/imported-files/data_sheets/AD844.pdf; ComponentLink3Description: Package Specification; ComponentLink3URL: http://www.analog.com/static/imported-files/packages/PKG_PDF/SOIC_WIDE%20%28RW%29/RW_16.pdf
footprint ADI-RW-16_N (SOIC, 16-Leads, Body 10.3x7.5mm, Pitch 1.27mm,IPC Medium Density)
footprint ADI-RW-16_L (SOIC, 16-Leads, Body 10.3x7.5mm, Pitch 1.27mm, IPC High Density)
footprint ADI-RW-16_M (SOIC, 16-Leads, Body 10.3x7.5mm, Pitch 1.27mm, IPC Low Density)
part A pins: 2 OFFSET NULL (in), 3 -IN (in), 5 +IN (in), 7 -V (power), 11 TZ, 12 OUT (out), 14 +V (power), 15 OFFSET NULL (in)
part B pins: 1 NC, 4 NC, 6 NC, 8 NC, 9 NC, 10 NC, 13 NC, 16 NC

## AD844SQ
designator U?
Single Channel Wide Bandwidth Operational Amplifier, 60 MHz BW, 2 KV/us SR, Military, 8-pin DIP (Q-8), Tube; Generic Part Number: AD844; Manufacturer: Analog Devices; PartNumber: AD844SQ; Amplifiers Per Package: 1; Input Bias Current: 100nA; Input Offset Voltage: 50uV; Iq/Amp: 6.5mA; Slew Rate: 2KV/us; Small Signal Bandwidth: 60MHz; V Span Max: 36V; V Span Min: 9V; DatasheetVersion: Rev. F; PackageReference: Q-8; PackageDescription: 8-Pin Ceramic Dual In-Line Package, Row spacing 7.62 mm, Pitch 2.54 mm; Supplier 1: Digi-Key; Supplier Part Number 1: AD844SQ-ND; Supplier 2: Newark; Supplier Part Number 2: 09B6614; Packing: Tube; Mounting Technology: Through Hole; ComponentLink1Description: Manufacturer URL; ComponentLink1URL: http://www.analog.com/en/index.html; ComponentLink2Description: Datasheet; ComponentLink2URL: http://www.analog.com/static/imported-files/data_sheets/AD844.pdf; ComponentLink3Description: Package Specification; ComponentLink3URL: http://www.analog.com/static/imported-files/packages/3925655241313314758Q_8.pdf
footprint ADI-Q-8 (DIP, 8-Leads, Body 10.29x6.73mm, Pitch 2.54mm)
pins: 1 NULL (in), 2 -IN (in), 3 +IN (in), 4 -VS (power), 5 TZ, 6 OUT (out), 7 +VS (power), 8 NULL (in)

## AD844SQ/883B
designator U?
Single Channel Wide Bandwidth Operational Amplifier, 60 MHz BW, 2 KV/us SR, Military, 8-pin DIP (Q-8), Tube; Generic Part Number: AD844; Manufacturer: Analog Devices; PartNumber: AD844SQ/883B; Amplifiers Per Package: 1; Input Bias Current: 100nA; Input Offset Voltage: 50uV; Iq/Amp: 6.5mA; Slew Rate: 2KV/us; Small Signal Bandwidth: 60MHz; V Span Max: 36V; V Span Min: 9V; DatasheetVersion: Rev. F; PackageReference: Q-8; PackageDescription: 8-Pin Ceramic Dual In-Line Package, Row spacing 7.62 mm, Pitch 2.54 mm; Supplier 1: Arrow; Supplier Part Number 1: 55368S6217635N4771; Supplier 2: Digi-Key; Supplier Part Number 2: AD844SQ/883B-ND; Packing: Tube; Mounting Technology: Through Hole; ComponentLink1Description: Manufacturer URL; ComponentLink1URL: http://www.analog.com/en/index.html; ComponentLink2Description: Datasheet; ComponentLink2URL: http://www.analog.com/static/imported-files/data_sheets/AD844.pdf; ComponentLink3Description: Package Specification; ComponentLink3URL: http://www.analog.com/static/imported-files/packages/3925655241313314758Q_8.pdf
footprint ADI-Q-8 (DIP, 8-Leads, Body 10.29x6.73mm, Pitch 2.54mm)
pins: 1 NULL (in), 2 -IN (in), 3 +IN (in), 4 -VS (power), 5 TZ, 6 OUT (out), 7 +VS (power), 8 NULL (in)

## AD847AQ
designator U?
Single Channel Superior Performance, High Unity Gain Operational Amplifier, 50 MHz BW, 300 V/us SR, Industrial, 8-pin DIP (Q-8), Tube; Generic Part Number: AD847; Manufacturer: Analog Devices; PartNumber: AD847AQ; Amplifiers Per Package: 1; Input Bias Current: 3.3uA; Input Offset Voltage: 500uV; Iq/Amp: 4.8mA; Small Signal Bandwidth: 50MHz; V Span Max: 36V; V Span Min: 9V; DatasheetVersion: Rev. F; PackageReference: Q-8; PackageDescription: 8-Pin Ceramic Dual In-Line Package, Row spacing 7.62 mm, Pitch 2.54 mm; Supplier 1: Digi-Key; Supplier Part Number 1: AD847AQ-ND; Supplier 2: Farnell; Supplier Part Number 2: 1464950; Supplier 3: Newark; Supplier Part Number 3: 05F7723; Packing: Tube; Slew Rate: 300V/us; Mounting Technology: Through Hole; ComponentLink1Description: Manufacturer URL; ComponentLink1URL: http://www.analog.com/en/index.html; ComponentLink2Description: Datasheet; ComponentLink2URL: http://www.analog.com/static/imported-files/data_sheets/AD847.pdf; ComponentLink3Description: Package Specification; ComponentLink3URL: http://www.analog.com/static/imported-files/packages/3925655241313314758Q_8.pdf
footprint ADI-Q-8 (DIP, 8-Leads, Body 10.29x6.73mm, Pitch 2.54mm)
pins: 1 NULL (in), 2 -IN (in), 3 +IN (in), 4 -VS (power), 5 NC, 6 OUT (out), 7 +VS (power), 8 NULL (in)

## AD847AR
designator U?
Single Channel Superior Performance, High Unity Gain Operational Amplifier, 50 MHz BW, 300 V/us SR, Industrial, 8-pin SOIC (R-8), Tube; Generic Part Number: AD847; Manufacturer: Analog Devices; PartNumber: AD847AR; Amplifiers Per Package: 1; Input Bias Current: 3.3uA; Input Offset Voltage: 500uV; Iq/Amp: 4.8mA; Small Signal Bandwidth: 50MHz; V Span Max: 36V; V Span Min: 9V; DatasheetVersion: Rev. F; PackageVersion: 060506-A; PackageReference: R-8; PackageDescription: 8-Pin Standard Small Outline Package, Body 3.9 x 4.9 mm, Pitch 1.27 mm; Supplier 1: Digi-Key; Supplier Part Number 1: AD847AR-ND; Packing: Tube; Slew Rate: 300V/us; Mounting Technology: Surface Mount; Code_JEDEC: MS-012-AA; ComponentLink1Description: Manufacturer URL; ComponentLink1URL: http://www.analog.com/en/index.html; ComponentLink2Description: Datasheet; ComponentLink2URL: http://www.analog.com/static/imported-files/data_sheets/AD847.pdf; ComponentLink3Description: Package Specification; ComponentLink3URL: http://www.analog.com/static/imported-files/packages/PKG_PDF/SOIC_Narrow%20(R)/R_8.pdf
footprint ADI-R-8_N (SOIC, 8-Leads, Body 4.9x3.9mm, Pitch 1.27mm, IPC Medium Density)
footprint ADI-R-8_L (SOIC, 8-Leads, Body 4.9x3.9mm, Pitch 1.27mm, IPC High Density)
footprint ADI-R-8_M (SOIC, 8-Leads, Body 4.9x3.9mm, Pitch 1.27mm, IPC Low Density)
pins: 1 NULL (in), 2 -IN (in), 3 +IN (in), 4 -VS (power), 5 NC, 6 OUT (out), 7 +VS (power), 8 NULL (in)

## AD847AR-REEL
designator U?
Single Channel Superior Performance, High Unity Gain Operational Amplifier, 50 MHz BW, 300 V/us SR, Industrial, 8-pin SOIC (R-8), Reel; Generic Part Number: AD847; Manufacturer: Analog Devices; PartNumber: AD847AR-REEL; Amplifiers Per Package: 1; Input Bias Current: 3.3uA; Input Offset Voltage: 500uV; Iq/Amp: 4.8mA; Small Signal Bandwidth: 50MHz; V Span Max: 36V; V Span Min: 9V; DatasheetVersion: Rev. F; PackageVersion: 060506-A; PackageReference: R-8; PackageDescription: 8-Pin Standard Small Outline Package, Body 3.9 x 4.9 mm, Pitch 1.27 mm; Supplier 1: Digi-Key; Supplier Part Number 1: AD847AR-REEL-ND; Supplier 2: Newark; Supplier Part Number 2: 09B6625; Packing: Reel; Slew Rate: 300V/us; Mounting Technology: Surface Mount; Code_JEDEC: MS-012-AA; ComponentLink1Description: Manufacturer URL; ComponentLink1URL: http://www.analog.com/en/index.html; ComponentLink2Description: Datasheet; ComponentLink2URL: http://www.analog.com/static/imported-files/data_sheets/AD847.pdf; ComponentLink3Description: Package Specification; ComponentLink3URL: http://www.analog.com/static/imported-files/packages/PKG_PDF/SOIC_Narrow%20(R)/R_8.pdf
footprint ADI-R-8_N (SOIC, 8-Leads, Body 4.9x3.9mm, Pitch 1.27mm, IPC Medium Density)
footprint ADI-R-8_L (SOIC, 8-Leads, Body 4.9x3.9mm, Pitch 1.27mm, IPC High Density)
footprint ADI-R-8_M (SOIC, 8-Leads, Body 4.9x3.9mm, Pitch 1.27mm, IPC Low Density)
pins: 1 NULL (in), 2 -IN (in), 3 +IN (in), 4 -VS (power), 5 NC, 6 OUT (out), 7 +VS (power), 8 NULL (in)